# Altium schematic symbol library Resistors-PTH-1W.SchLib: 2 symbols
Pins are listed as number, name and electrical type; pins without a type are passive.

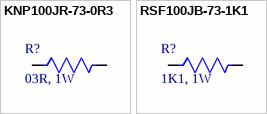
[diagram p0: symbols KNP100JR-73-0R3 to RSF100JB-73-1K1]

## KNP100JR-73-0R3
designator R?, comment 03R, 1W
RES 0.3 OHM 5% 1W AXIAL; Manufacturer: Yageo; Manufacturer Part Number: KNP100JR-73-0R3; Value: 0R3; Supplier: Digikey; Supplier Part Number: 13-KNP100JR-73-0R3CT-ND; RoHS: Yes; Category: Through-Hole Resistors; Stock: 3158; Pricing: 1=0.33, 10=0.225, 25=0.1752, 50=0.1292, 100=0.0898, 250=0.07828, 500=0.06456, 1000=0.04836 (USD); RoHS Compliant: Yes; ComponentLink1URL: https://datasheet.ciiva.com/2711/yageolr-knp-2013-2711818.pdf?src-supplier=Digikey; ComponentLink1Description: https://datasheet.ciiva.com/2711/yageolr-knp-2013-2711818.pdf?src-supplier=Digikey; ComponentLink2URL: https://datasheet.ciiva.com/2711/yageolr-knp-2013-2711817.pdf?src-supplier=Digikey; ComponentLink2Description: https://datasheet.ciiva.com/2711/yageolr-knp-2013-2711817.pdf?src-supplier=Digikey
footprint RES-03R-1W
pins: 1, 2

## RSF100JB-73-1K1
designator R?, comment 1K1, 1W
RES 1.1K OHM 5% 1W AXIAL; Manufacturer: Yageo; Manufacturer Part Number: RSF100JB-73-1K1; Supplier: Digikey; Supplier Part Number: 1.1KW-1-ND; RoHS: Yes; Category: Through-Hole Resistors; Stock: 4216; Pricing: 1=0.32, 10=0.254, 100=0.0991, 2000=0.04008, 6000=0.03644, 10000=0.03401 (USD); ComponentLink1URL: https://datasheet.ciiva.com:443/pdfs/VipMasterIC/IC/YAGO/YAGO-S-A0009358864/YAGO-S-A0009358864-1.pdf?src-supplier=IHS+Markit; ComponentLink1Description: https://datasheet.ciiva.com:443/pdfs/VipMasterIC/IC/YAGO/YAGO-S-A0009358864/YAGO-S-A0009358864-1.pdf?src-supplier=IHS+Markit; ComponentLink2URL: https://datasheet.ciiva.com/2715/yageolr-rsf-2013-2715034.pdf?src-supplier=Digikey; ComponentLink2Description: https://datasheet.ciiva.com/2715/yageolr-rsf-2013-2715034.pdf?src-supplier=Digikey; Value: 1k1
footprint RES-1K1-1W
pins: 1, 2